# Altium footprint library Conectores_PCBLIB.PcbLib: 60 footprints (part 2 of 4)
Each footprint in its own frame and in the unit in brackets; x right, y up, seen from the top. Pads: shape width x height; smd on the part's side, far side on the other; paste and mask are expansions set on the pad; w line width, h text height; cw(c..) or ccw(c..) is an arc to the next point about the centre after c.
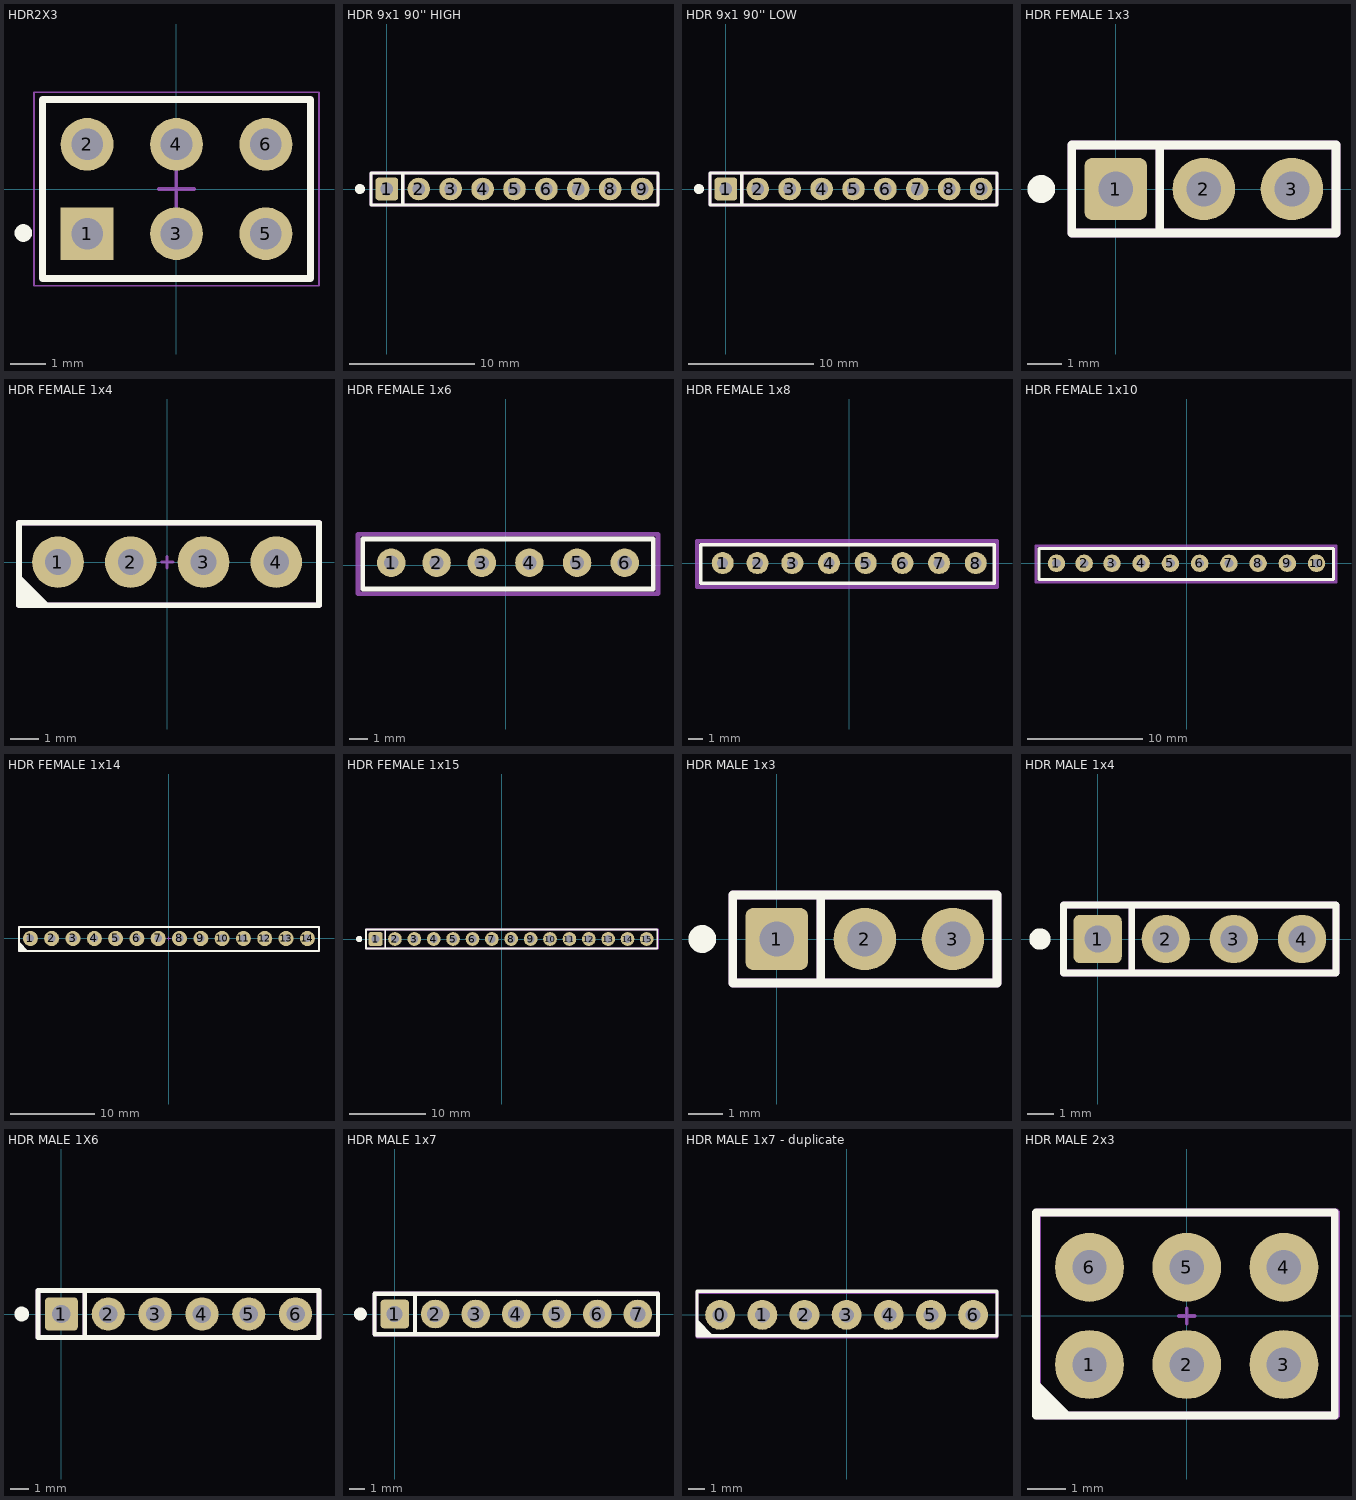
[diagram p1: the footprints below, top view; thin cyan lines are the x and y axes]

## HDR2X3 [mm] "Connector; Header; 3x2 Position"
pads (6):
  rect 1.5x1.5 hole 0.9: 1(-2.54,-1.27)
  round 1.5 hole 0.9: 2(-2.54,1.27) 3(0,-1.27) 4(0,1.27) 5(2.54,-1.27) 6(2.54,1.27)
Top Overlay:
  circle w0.25: c-4.35,-1.25 r0.125
  lines w0.2: -1.058,-2.54 3.81,-2.54 ; 3.81,-2.54 3.81,2.54 -3.81,2.54 -3.81,-2.54 3.81,-2.54
Mechanical 15:
  lines w0.05: -4.05,-2.75 4.05,-2.75 4.05,2.75 -4.05,2.75 -4.05,-2.75
  lines w0.1: -0.5,0 0.5,0 ; 0,-0.5 0,0.5
Mechanical 29:
  text ".Designator" at 0,0 h1

## HDR 9x1 90'' HIGH [mm] "PinHeader 1x9 TH Pitch 2.54mm"
height 9.5
pads (9):
  rrect25% 1.8x1.8 hole 1: 1(0,0)
  round 1.8 hole 1: 2(2.54,0) 3(5.08,0) 4(7.62,0) 5(10.16,0) 6(12.7,0) 7(15.24,0) 8(17.78,0) 9(20.32,0)
Top Overlay:
  circle w0.5: c-2.15,0 r0.15
  lines w0.254: 1.27,-1.27 1.27,1.27 -1.27,1.27 ; -1.27,1.27 21.59,1.27 21.59,-1.27 -1.27,-1.27 -1.27,1.27
Mechanical 3:
  lines w0.254: 1.27,-1.27 1.27,1.27 -1.27,1.27 ; -1.27,1.27 21.59,1.27 21.59,-1.27 -1.27,-1.27 -1.27,1.27
3D body "hdr-1x01-m-90hi-tht-2.54mm.step": height 4.1, standoff -3.5, extent -1.27,-1.27 1.27,7.35
3D body "hdr-1x01-m-90hi-tht-2.54mm.step": height 4.1, standoff -3.5, extent 1.27,-1.27 3.81,7.35
3D body "hdr-1x01-m-90hi-tht-2.54mm.step": height 4.1, standoff -3.5, extent 3.81,-1.27 6.35,7.35
3D body "hdr-1x01-m-90hi-tht-2.54mm.step": height 4.1, standoff -3.5, extent 6.35,-1.27 8.89,7.35
3D body "hdr-1x01-m-90hi-tht-2.54mm.step": height 4.1, standoff -3.5, extent 8.89,-1.27 11.43,7.35
3D body "hdr-1x01-m-90hi-tht-2.54mm.step": height 4.1, standoff -3.5, extent 11.43,-1.27 13.97,7.35
3D body "hdr-1x01-m-90hi-tht-2.54mm.step": height 4.1, standoff -3.5, extent 13.97,-1.27 16.51,7.35
3D body "hdr-1x01-m-90hi-tht-2.54mm.step": height 4.1, standoff -3.5, extent 16.51,-1.27 19.05,7.35
3D body "hdr-1x01-m-90hi-tht-2.54mm.step": height 4.1, standoff -3.5, extent 19.05,-1.27 21.59,7.35

## HDR 9x1 90'' LOW [mm] "PinHeader 1x9 TH Pitch 2.54mm"
height 9.5
pads (9):
  rrect25% 1.8x1.8 hole 1: 1(0,0)
  round 1.8 hole 1: 2(2.54,0) 3(5.08,0) 4(7.62,0) 5(10.16,0) 6(12.7,0) 7(15.24,0) 8(17.78,0) 9(20.32,0)
Top Overlay:
  circle w0.5: c-2.15,0 r0.15
  lines w0.254: 1.27,-1.27 1.27,1.27 -1.27,1.27 ; -1.27,1.27 21.59,1.27 21.59,-1.27 -1.27,-1.27 -1.27,1.27
Mechanical 3:
  lines w0.254: 1.27,-1.27 1.27,1.27 -1.27,1.27 ; -1.27,1.27 21.59,1.27 21.59,-1.27 -1.27,-1.27 -1.27,1.27
3D body "hdr-1x01-m-90lo-tht-2.54mm.step": height 4.15, standoff -5.95, extent 19.13,-1.24 21.67,5.15
3D body "hdr-1x01-m-90lo-tht-2.54mm.step": height 4.15, standoff -5.95, extent 16.584,-1.24 19.124,5.15
3D body "hdr-1x01-m-90lo-tht-2.54mm.step": height 4.15, standoff -5.95, extent 14.038,-1.24 16.578,5.15
3D body "hdr-1x01-m-90lo-tht-2.54mm.step": height 4.15, standoff -5.95, extent 11.491,-1.24 14.031,5.15
3D body "hdr-1x01-m-90lo-tht-2.54mm.step": height 4.15, standoff -5.95, extent 8.945,-1.24 11.485,5.15
3D body "hdr-1x01-m-90lo-tht-2.54mm.step": height 4.15, standoff -5.95, extent 6.399,-1.24 8.939,5.15
3D body "hdr-1x01-m-90lo-tht-2.54mm.step": height 4.15, standoff -5.95, extent 3.853,-1.24 6.393,5.15
3D body "hdr-1x01-m-90lo-tht-2.54mm.step": height 4.15, standoff -5.95, extent 1.306,-1.24 3.846,5.15
3D body "hdr-1x01-m-90lo-tht-2.54mm.step": height 4.15, standoff -5.95, extent -1.24,-1.24 1.3,5.15

## HDR FEMALE 1x3 [mm] "PinHeader 1x3 TH Pitch 2.54mm"
height 9.5
pads (3):
  rrect25% 1.8x1.8 hole 1: 1(0,0)
  round 1.8 hole 1: 2(2.54,0) 3(5.08,0)
Top Overlay:
  circle w0.5: c-2.15,0 r0.15
  lines w0.254: 1.27,-1.27 1.27,1.27 -1.27,1.27 ; -1.27,1.27 -1.27,-1.27 6.35,-1.27 6.35,1.27 -1.27,1.27
Mechanical 3:
  lines w0.254: 1.27,-1.27 1.27,1.27 -1.27,1.27 ; -1.27,1.27 -1.27,-1.27 6.35,-1.27 6.35,1.27 -1.27,1.27
3D body "female_header_a-bl254-eg-g03d.stp": height 8.5, standoff -3.2, extent -1.435,-1.3 6.435,1.2

## HDR FEMALE 1x4 [mm] "Connector; Header; 4 Position"
pads (4):
  round 1.8 hole 0.9: 1(-3.81,0) 2(-1.27,0) 3(1.27,0) 4(3.81,0)
Top Overlay:
  region: -5.17,-1.5 -4.572,-1.5 -4.088,-1.5 -5.17,-0.418
  lines w0.2: -5.17,-1.5 5.3,-1.5 5.3,1.37 -5.17,1.37 -5.17,-1.5
Mechanical 15:
  lines w0.1: -0.2,0 0.2,0 ; 0,-0.2 0,0.2
  lines w0.2: -5.17,-1.5 -5.17,1.37 5.3,1.37 5.3,-1.5 -5.17,-1.5
Mechanical 29:
  text "1" at -2.794,-1.143 h0.5
  text ".Designator" at -4.97,1.87 h0.5
3D body "HDR FEMALE 1x4.STEP": height 8.5, standoff -2.09, extent -5,-1.3 5.16,1.24

## HDR FEMALE 1x6 [mil]
pads (6):
  round 60 hole 30: 1(-240,5) 2(-145,5) 3(-50,5) 4(50,5) 5(150,5) 6(250,5)
Top Overlay:
  lines w10: -300,-50 -300,55 310,55 310,-50 -300,-50
Mechanical 15:
  lines w10: -310,-60 -310,65 320,65 320,-60 -310,-60
3D body "female_header_a-bl254-eg-g06d.stp": height 334.65, standoff -125.98, extent -304.92,-45 304.92,53.43

## HDR FEMALE 1x8 [mil]
pads (8):
  round 60 hole 30: 1(-345,0) 2(-250,0) 3(-155,0) 4(-55,0) 5(45,0) 6(145,0) 7(245,0) 8(345,0)
Top Overlay:
  lines w10: -405,-55 395,-55 395,50 -405,50 -405,-55
Mechanical 15:
  lines w10: -415,-65 402.88,-65 402.88,60 -415,60 -415,-65
3D body "female_header_a-bl254-eg-z08d.stp": height 334.65, standoff -125.98, extent -408.86,-51.18 400.98,47.24

## HDR FEMALE 1x10 [mil]
pads (10):
  round 60 hole 30: 1(-445,0) 2(-350,0) 3(-255,0) 4(-155,0) 5(-55,0) 6(45,0) 7(145,0) 8(245,0) 9(345,0) 10(445,0)
Top Overlay:
  lines w10: -505,-55 503.66,-55 503.66,50 -505,50 -505,-55
Mechanical 15:
  lines w10: -515,-65 511.54,-65 511.54,60 -515,60 -515,-65
3D body "female_header_a-bl254-eg-z10d.stp": height 334.65, standoff -125.98, extent -504.92,-49.21 504.92,49.21

## HDR FEMALE 1x14 [mm] "Connector; Header; 14 Position"
pads (14):
  round 1.8 hole 0.9: 1(-16.51,0) 2(-13.97,0) 3(-11.43,0) 4(-8.89,0) 5(-6.35,0) 6(-3.81,0) 7(-1.27,0) 8(1.27,0) 9(3.81,0) 10(6.35,0) 11(8.89,0) 12(11.43,0) 13(13.97,0) 14(16.51,0)
Top Overlay:
  region: -17.87,-1.5 -17.272,-1.5 -16.788,-1.5 -17.87,-0.418
  lines w0.2: -17.87,-1.5 17.9,-1.5 17.9,1.37 -17.87,1.37 -17.87,-1.5
Mechanical 15:
  lines w0.1: -0.2,0 0.2,0 ; 0,-0.2 0,0.2
  lines w0.2: -17.87,-1.5 -17.87,1.37 17.9,1.37 17.9,-1.5 -17.87,-1.5
Mechanical 29:
  text "1" at -15.494,-1.143 h0.5
  text ".Designator" at -17.67,1.87 h0.5
3D body "HDR FEMALE 1x14.STEP": height 8.5, standoff -2.09, extent -17.8,-1.3 17.76,1.24

## HDR FEMALE 1x15 [mm]
pads (15):
  rrect25% 1.8x1.8 hole 1: 1(-16.51,0)
  round 1.8 hole 1: 2(-13.97,0) 3(-11.43,0) 4(-8.89,0) 5(-6.35,0) 6(-3.81,0) 7(-1.27,0) 8(1.27,0) 9(3.81,0) 10(6.35,0) 11(8.89,0) 12(11.43,0) 13(13.97,0) 14(16.51,0) 15(19.01,0)
Top Overlay:
  circle w0.5: c-18.66,0 r0.15
  lines w0.254: -15.24,-1.27 -15.24,1.27 -17.78,1.27 ; -17.78,1.27 20.4,1.27 20.4,-1.27 -17.78,-1.27 -17.78,1.27
Mechanical 3:
  lines w0.254: -15.24,-1.27 -15.24,1.27 -17.78,1.27 ; -17.78,1.27 20.5,1.27 20.5,-1.27 -17.78,-1.27 -17.78,1.27
3D body "female_header_a-bl254-eg-g03d.stp": height 8.5, standoff -3.2, extent -17.8,-1.4 -9.93,1.1
3D body "female_header_a-bl254-eg-g03d.stp": height 8.5, standoff -3.2, extent -10.235,-1.4 -2.365,1.1
3D body "female_header_a-bl254-eg-g03d.stp": height 8.5, standoff -3.2, extent -2.735,-1.4 5.135,1.1
3D body "female_header_a-bl254-eg-g03d.stp": height 8.5, standoff -3.2, extent 4.865,-1.4 12.735,1.1
3D body "female_header_a-bl254-eg-g03d.stp": height 8.5, standoff -3.2, extent 12.565,-1.4 20.435,1.1

## HDR MALE 1x3 [mm] "PinHeader 1x3 TH Pitch 2.54mm"
height 9.5
pads (3):
  rrect25% 1.8x1.8 hole 1: 1(0,0)
  round 1.8 hole 1: 2(2.54,0) 3(5.08,0)
Top Overlay:
  circle w0.5: c-2.15,0 r0.15
  lines w0.254: 1.27,-1.27 1.27,1.27 -1.27,1.27 ; -1.27,1.27 6.35,1.27 6.35,-1.27 -1.27,-1.27 -1.27,1.27
Mechanical 3:
  lines w0.254: 1.27,-1.27 1.27,1.27 -1.27,1.27 ; -1.27,1.27 6.35,1.27 6.35,-1.27 -1.27,-1.27 -1.27,1.27
3D body "Pin Header 1x3 TH Pitch 2.54mm.stp": height 9.5, standoff -3.2, extent -1.27,-1.27 6.35,1.27

## HDR MALE 1x4 [mm] "PinHeader 1x4 TH Pitch 2.54mm"
height 9.5
pads (4):
  rrect25% 1.8x1.8 hole 1: 1(0,0)
  round 1.8 hole 1: 2(2.54,0) 3(5.08,0) 4(7.62,0)
Top Overlay:
  circle w0.5: c-2.15,0 r0.15
  lines w0.254: 1.27,-1.27 1.27,1.27 -1.27,1.27 ; -1.27,1.27 8.89,1.27 8.89,-1.27 -1.27,-1.27 -1.27,1.27
Mechanical 3:
  lines w0.254: 1.27,-1.27 1.27,1.27 -1.27,1.27 ; -1.27,1.27 8.89,1.27 8.89,-1.27 -1.27,-1.27 -1.27,1.27
3D body "Pin Header 1x4 TH Pitch 2.54mm.stp": height 9.5, standoff -3.2, extent -1.27,-1.27 8.89,1.27

## HDR MALE 1X6 [mm] "PinHeader 1x6 TH Pitch 2.54mm"
height 9.5
pads (6):
  rrect25% 1.8x1.8 hole 1: 1(0,0)
  round 1.8 hole 1: 2(2.54,0) 3(5.08,0) 4(7.62,0) 5(10.16,0) 6(12.7,0)
Top Overlay:
  circle w0.5: c-2.15,0 r0.15
  lines w0.254: 1.27,-1.27 1.27,1.27 -1.27,1.27 ; -1.27,1.27 -1.27,-1.27 13.97,-1.27 13.97,1.27 -1.27,1.27
Mechanical 3:
  lines w0.254: 1.27,-1.27 1.27,1.27 -1.27,1.27 ; -1.27,1.27 -1.27,-1.27 13.97,-1.27 13.97,1.27 -1.27,1.27
3D body "Pin Header 1x6 TH Pitch 2.54mm.stp": height 9.5, standoff -3.2, extent -1.27,-1.27 13.97,1.27

## HDR MALE 1x7 [mm] "PinHeader 1x7 TH Pitch 2.54mm"
height 9.5
pads (7):
  rrect25% 1.8x1.8 hole 1: 1(0,0)
  round 1.8 hole 1: 2(2.54,0) 3(5.08,0) 4(7.62,0) 5(10.16,0) 6(12.7,0) 7(15.24,0)
Top Overlay:
  circle w0.5: c-2.15,0 r0.15
  lines w0.254: 1.27,-1.27 1.27,1.27 -1.27,1.27 ; -1.27,1.27 16.51,1.27 16.51,-1.27 -1.27,-1.27 -1.27,1.27
Mechanical 3:
  lines w0.254: 1.27,-1.27 1.27,1.27 -1.27,1.27 ; -1.27,1.27 16.51,1.27 16.51,-1.27 -1.27,-1.27 -1.27,1.27
3D body "Pin Header 1x7 TH Pitch 2.54mm.stp": height 9.5, standoff -3.2, extent -1.27,-1.27 16.51,1.27

## HDR MALE 1x7 - duplicate [mm] "Connector; Header; 7 Position"
pads (7):
  round 1.8 hole 0.9: 0(-7.62,0) 1(-5.08,0) 2(-2.54,0) 3(0,0) 4(2.54,0) 5(5.08,0) 6(7.62,0)
Top Overlay:
  region: -9.017,-1.252 -8.292,-1.252 -8.038,-1.252 -9.017,-0.272
  lines w0.2: -9.017,-1.27 -9.017,1.43 9.06,1.43 9.06,-1.27 -9.017,-1.27
Mechanical 15:
  lines w0.1: -0.2,0 0.2,0 ; 0,-0.2 0,0.2
  lines w0.2: -9.017,-1.33 9.06,-1.33 9.06,1.37 -9.017,1.37 -9.017,-1.33
Mechanical 29:
  text ".Designator" at -8.763,1.905 h0.5
  text "0" at -6.731,-1.016 h0.5
3D body "header_1pin.step": height 5.94, standoff -2.94, extent 6.35,-1.27 8.89,1.27
3D body "header_1pin.step": height 5.94, standoff -2.94, extent 3.81,-1.27 6.35,1.27
3D body "header_1pin.step": height 5.94, standoff -2.94, extent 1.27,-1.27 3.81,1.27
3D body "header_1pin.step": height 5.94, standoff -2.94, extent -6.35,-1.27 -3.81,1.27
3D body "header_1pin.step": height 5.94, standoff -2.94, extent -3.81,-1.27 -1.27,1.27
3D body "header_1pin.step": height 5.94, standoff -2.94, extent -1.27,-1.27 1.27,1.27
3D body "header_1pin.step": height 5.94, standoff -2.94, extent -8.89,-1.27 -6.35,1.27

## HDR MALE 2x3 [mm] "Connector; Header; 6 Position"
pads (6):
  round 1.8 hole 0.9: 1(-2.54,-1.27) 2(0,-1.27) 3(2.54,-1.27) 4(2.54,1.27) 5(0,1.27) 6(-2.54,1.27)
Top Overlay:
  region: -3.937,-2.6 -3.048,-2.6 -3.048,-2.54 -3.937,-1.651
  lines w0.2: -3.937,-2.6 -3.937,2.7 3.863,2.7 3.863,-2.6 -3.937,-2.6
Mechanical 15:
  lines w0.1: -0.2,0 0.2,0 ; 0,-0.2 0,0.2
  lines w0.2: -3.9,-2.6 -3.9,2.7 3.9,2.7 3.9,-2.6 -3.9,-2.6
Mechanical 29:
  text "1" at -1.524,-2.286 h0.5
  text ".Designator" at -3.7,3.1 h0.5
3D body "header_1pin.step": height 5.94, standoff -2.94, extent 1.27,-2.54 3.81,0
3D body "header_1pin.step": height 5.94, standoff -2.94, extent -1.27,-2.54 1.27,0
3D body "header_1pin.step": height 5.94, standoff -2.94, extent -3.81,-2.54 -1.27,0
3D body "header_1pin.step": height 5.94, standoff -2.94, extent 1.27,0 3.81,2.54
3D body "header_1pin.step": height 5.94, standoff -2.94, extent -1.27,0 1.27,2.54
3D body "header_1pin.step": height 5.94, standoff -2.94, extent -3.81,0 -1.27,2.54